# Altium footprint library Transistors_rus.PCBLIB: 35 footprints (part 2 of 3)
Each footprint in its own frame and in the unit in brackets; x right, y up, seen from the top. Pads: shape width x height; smd on the part's side, far side on the other; paste and mask are expansions set on the pad; w line width, h text height; cw(c..) or ccw(c..) is an arc to the next point about the centre after c.
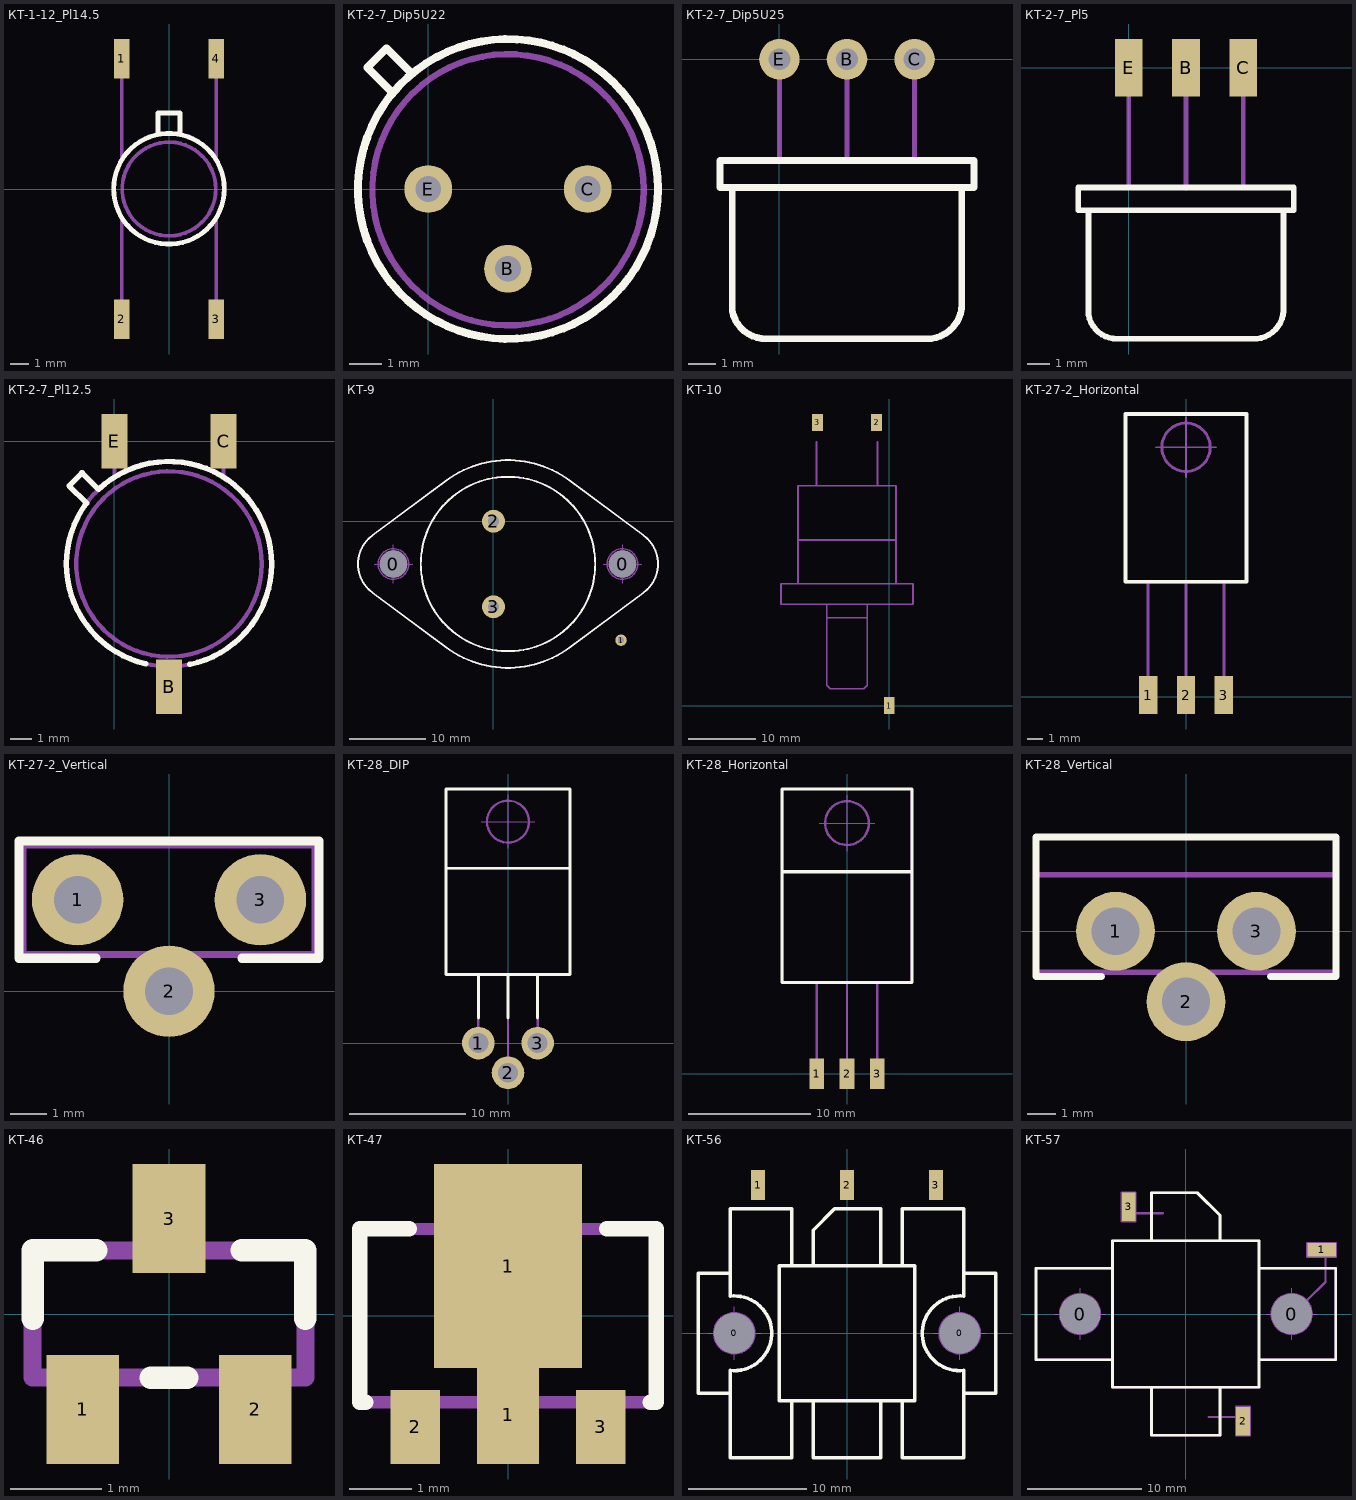
[diagram p1: the footprints below, top view; thin cyan lines are the x and y axes]

## КТ-1-12_Pl14.5 [mm]
height 7.3
pads (4):
  rect 0.8x2.1 smd: 1(-2.5,6.875) 2(-2.5,-6.875) 3(2.5,-6.875) 4(2.5,6.875)
Top Overlay:
  circle w0.25: c0,0.01 r2.925
  lines w0.25: -0.58,2.9 -0.58,4.02 0.58,4.02 0.58,2.9
Mechanical 1:
  circle w0.2: c0,0 r2.925
  circle w0.2: c0,0 r2.475
  lines w0.2: -2.5,-7.25 -2.5,-1.525 ; -2.5,1.525 -2.5,7.25 ; -0.58,2.9 -0.58,4.02 0.58,4.02 0.58,2.9 ; 2.5,-7.25 2.5,-1.525 ; 2.5,1.525 2.5,7.25
  text ".Designator" at -1.1,4.775 h1.5
  text "И" at -1.8,0.375 h1.5
  text "С" at -1.8,-1.325 h1.5
  text "З" at 1.1,-1.325 h1.5
  text "К" at 0.9,0.375 h1.5
3D body: height 8.56, standoff 0, extent -2.911,-7.25 2.911,7.25

## КТ-2-7_Dip5U22 [mm]
height 9.6
pads (3):
  round 1.5 hole 0.8: B(2.5,-2.5) C(5,0) E(0,0)
Top Overlay:
  circle w0.25: c2.5,0 r4.7
  lines w0.25: -1.11,3.01 -1.91,3.81 -1.31,4.41 -0.51,3.61
Mechanical 1:
  circle w0.2: c2.5,0 r4.7
  circle w0.2: c2.5,-0.025 r4.25
  lines w0.2: -1.12,3.02 -1.9,3.8 -1.3,4.4 -0.5,3.6 -0.52,3.6
  text ".Designator" at 0.2,2 h1.5
  text "Э" at -0.31,-0.007 h1.5
  text "К" at 4.52,-0.017 h1.5
  text "Б" at 2.1,-3.3 h1.5

## КТ-2-7_Dip5U25 [mm]
height 9.4
pads (3):
  round 1.5 hole 0.8: B(2.5,0) C(5,0) E(0,0)
Top Overlay:
  lines w0.25: -1.75,-9.3 -1.75,-4.75 ; -1.749,-9.302 ccw(c-0.515,-9.1) -0.491,-10.35 ; -0.55,-10.35 5.6,-10.35 ; 5.607,-10.351 ccw(c5.45,-9.055) 6.745,-9.219 ; 6.75,-9.19 6.75,-4.75 ; -2.2,-4.75 7.2,-4.75 7.2,-3.75 -2.2,-3.75 -2.2,-4.75
Mechanical 1:
  lines w0.2: -1.752,-9.332 ccw(c-0.525,-9.1) -0.501,-10.348 ; -1.75,-9.38 -1.75,-4.75 ; -0.5,-10.35 5.5,-10.35 ; 0,-3.775 0,0 ; 2.5,-3.775 2.5,0 ; 5,-3.775 5,0 ; 5.492,-10.349 ccw(c5.46,-9.055) 6.746,-8.908 ; 6.75,-8.87 6.75,-4.75 ; -2.2,-4.75 7.2,-4.75 7.2,-3.75 -2.2,-3.75 -2.2,-4.75
  text ".Designator" at 0.2,-8.6 h1.5
  text "Э" at -0.51,-6.787 h1.5
  text "Б" at 2.232,-6.767 h1.5
  text "К" at 4.54,-6.837 h1.5

## КТ-2-7_Pl5 [mm]
height 9.4
pads (3):
  rect 1.2x2.5 smd: B(2.5,0) C(5,0) E(0,0)
Top Overlay:
  lines w0.25: -1.75,-10.775 -1.75,-6.225 ; -1.749,-10.777 ccw(c-0.515,-10.575) -0.491,-11.825 ; -0.55,-11.825 5.6,-11.825 ; 5.607,-11.826 ccw(c5.45,-10.53) 6.753,-10.601 ; 6.75,-10.665 6.75,-6.225 ; -2.2,-6.225 7.2,-6.225 7.2,-5.225 -2.2,-5.225 -2.2,-6.225
Mechanical 1:
  lines w0.2: -1.752,-10.807 ccw(c-0.525,-10.575) -0.501,-11.823 ; -1.75,-10.855 -1.75,-6.225 ; -0.45,-11.825 5.55,-11.825 ; 0,-5.225 0,0.54 ; 2.5,-5.25 2.5,0.54 ; 5,-5.225 5,0.54 ; 5.492,-11.824 ccw(c5.46,-10.53) 6.755,-10.55 ; 6.75,-10.55 6.75,-6.225 ; -2.2,-6.225 7.2,-6.225 7.2,-5.225 -2.2,-5.225 -2.2,-6.225
  text ".Designator" at 0.4,-9.6 h1.5
  text "Э" at -0.41,-7.762 h1.5
  text "К" at 4.64,-7.812 h1.5
  text "Б" at 2.332,-7.742 h1.5

## КТ-2-7_Pl12.5 [mm]
height 10.4
pads (3):
  rect 1.2x2.5 smd: B(2.5,-11.25) C(5,0) E(0,0)
Top Overlay:
  lines w0.25: -2.08,-2.04 -1.28,-2.84 ; -2.07,-2.03 -1.49,-1.45 ; -1.48,-1.45 -0.73,-2.2 ; -1.288,-2.843 ccw(c2.5,-5.625) 1.427,-10.201 ; -0.717,-2.199 cw(c2.5,-5.625) 3.453,-10.227
Mechanical 1:
  circle w0.2: c2.5,-5.625 r4.25
  circle w0.2: c2.5,-5.625 r4.7
  lines w0.2: -1.29,-2.8 -2.06,-2.03 -1.47,-1.44 -0.71,-2.2 ; 0,-1.625 0,0.625 ; 2.5,-11.875 2.5,-10.325 ; 5,-1.625 5,0.625
  text ".Designator" at 0.1,-6.5 h1.5
  text "Б" at 2.172,-9.332 h1.5
  text "К" at 4.44,-4.382 h1.5
  text "Э" at -0.36,-4.382 h1.5

## КТ-9 [mm]
height 10.3
pads (5):
  round 3.5 hole 3.5 unplated: 0(-13.1,-5.6) 0(16.9,-5.6)
  round 1.5 hole 0.8 unplated: 1(16.71,-15.58)
  round 3 hole 1.5: 2(0,0) 3(0,-11.2)
Top Overlay:
  circle w0.25: c1.9,-5.6 r11.425
  lines w0.25: -15.85,-9.35 cw(c-13.1,-5.6) -15.85,-1.85 -6.1,5.4 cw(c1.9,-5.6) 9.9,5.4 19.65,-1.85 cw(c16.9,-5.6) 19.65,-9.35 9.9,-16.6 cw(c1.9,-5.6) -6.1,-16.6 -15.85,-9.35
Mechanical 1:
  circle w0.2: c1.9,-5.6 r11.425
  circle w0.2: c16.9,-5.6 r1.75
  circle w0.2: c16.9,-5.6 r2
  circle w0.2: c-13.1,-5.6 r2
  circle w0.2: c-13.1,-5.6 r1.75
  lines w0.1: -15.6,-5.6 -10.6,-5.6 ; -13.1,-8.1 -13.1,-3.1 ; 14.4,-5.6 19.4,-5.6 ; 16.9,-8.1 16.9,-3.1
  lines w0.2: -15.85,-9.35 cw(c-13.1,-5.6) -15.85,-1.85 -6.1,5.4 cw(c1.9,-5.6) 9.9,5.4 19.65,-1.85 cw(c16.9,-5.6) 19.65,-9.35 9.9,-16.6 cw(c1.9,-5.6) -6.1,-16.6 -15.85,-9.35
  text "Б" at 1.972,-1.082 h1.5
  text "Э" at 1.99,-12.582 h1.5
  text "К" at 13.965,-17.857 h1.5
  text ".Designator" at -0.28,-6.25 h1.5
Mechanical 2:
  circle w0.2: c16.9,-5.6 r1.75
  circle w0.2: c16.9,-5.6 r2
  circle w0.2: c-13.1,-5.6 r2
  circle w0.2: c-13.1,-5.6 r1.75
  lines w0.1: -15.6,-5.6 -10.6,-5.6 ; -13.1,-8.1 -13.1,-3.1 ; 14.4,-5.6 19.4,-5.6 ; 16.9,-8.1 16.9,-3.1

## КТ-10 [mm]
height 19.6
pads (3):
  rect 1.6x2.5 smd: 1(0,0) 2(-1.875,41.875) 3(-10.625,41.875)
Mechanical 1:
  lines w0.25: -13.5,18 -13.5,32.5 1,32.5 1,18 ; -13.5,24.5 1,24.5 ; -10.75,32.5 -10.75,39 ; -9.25,13 -3.25,13 ; -9.25,15 -9.25,3 -8.75,2.5 -3.75,2.5 -3.25,3 -3.25,15 ; -1.75,32.5 -1.75,39 ; -16,15 -16,18 3.5,18 3.5,15 -16,15
  text "Э" at -10.11,36.743 h1.5
  text "Б" at -0.978,36.743 h1.5
  text "К" at -2.11,2.493 h1.5
  text ".Designator" at -9.58,20.55 h1.5

## КТ-27-2_Horizontal [mm]
height 4.8
pads (3):
  rect 1.2x2.5 smd: 1(-2.5,0.12) 2(0,0.12) 3(2.5,0.12)
Top Overlay:
  lines w0.25: -4,7.62 4,7.62 4,18.72 -4,18.72 -4,7.62
Mechanical 1:
  circle w0.2: c0,16.52 r1.6
  lines w0.1: -2,16.52 2,16.52 ; 0,14.52 0,18.52
  lines w0.2: -2.5,-0.38 -2.5,7.62 ; 0,-0.38 0,7.62 ; 2.5,-0.38 2.5,7.62 ; -4,7.62 4,7.62 4,18.72 -4,18.72 -4,7.62
  text ".Designator" at -1.78,12.25 h1.5
  text "Э" at -2.96,8.313 h1.5
  text "Б" at 2.172,8.313 h1.5
  text "К" at -0.46,8.313 h1.5

## КТ-27-2_Vertical [mm]
height 17.7
pads (3):
  round 2.5 hole 1.3: 1(-2.5,2.5) 2(0,0) 3(2.5,2.5)
Top Overlay:
  lines w0.25: -2,0.9 -4.1,0.9 -4.1,4.1 4.1,4.1 4.1,0.9 2,0.9
Mechanical 1:
  lines w0.2: 0,0 0,1 ; -4,1 -4,4 4,4 4,1 -4,1
  text ".Designator" at -1.68,4.95 h1.5
  text "Б" at 2.4,2.1 h1.5
  text "К" at -0.36,1.543 h1.5
  text "Э" at -3.36,2.043 h1.5

## КТ-28_DIP [mm]
height 4.8
pads (3):
  round 2.8 hole 1.7: 1(-2.54,0) 2(0,-2.54) 3(2.54,0)
Top Overlay:
  lines w0.25: -5.325,15 5.325,15 ; -2.54,2.159 -2.54,5.842 ; 0,2.159 0,5.842 ; 2.54,2.159 2.54,5.842 ; -5.325,5.9 5.325,5.9 5.325,21.8 -5.325,21.8 -5.325,5.9
Mechanical 1:
  circle w0.2: c0,19 r1.8
  lines w0.1: -2.3,19 2.3,19 ; 0,16.7 0,21.3
  lines w0.2: -5.325,15 5.325,15 ; -2.54,0 -2.54,5.842 ; 0,-2.54 0,5.842 ; 2.54,0 2.54,5.842 ; -5.325,5.9 5.325,5.9 5.325,21.8 -5.325,21.8 -5.325,5.9
  text ".Designator" at -1.68,11.73 h1.5
  text "Э" at -3.635,6.648 h1.5
  text "Б" at 2.847,6.648 h1.5
  text "К" at -0.46,6.648 h1.5
  text ".Designator" at -2.032,13.462 h1.5
3D body: height 4.8, standoff -3, extent -5.325,-3.022 5.325,21.7

## КТ-28_Horizontal [mm]
height 4.8
pads (3):
  rect 1.2x2.5 smd: 1(-2.5,0) 2(0,0) 3(2.5,0)
Top Overlay:
  lines w0.25: -5.325,16.6 5.325,16.6 ; -5.325,7.5 5.325,7.5 5.325,23.4 -5.325,23.4 -5.325,7.5
Mechanical 1:
  circle w0.2: c0,20.6 r1.8
  lines w0.1: -2.3,20.6 2.3,20.6 ; 0,18.3 0,22.9
  lines w0.2: -5.325,16.6 5.325,16.6 ; -2.5,-0.5 -2.5,7.5 ; 0,-0.5 0,7.5 ; 2.5,-0.5 2.5,7.5 ; -5.325,7.5 5.325,7.5 5.325,23.4 -5.325,23.4 -5.325,7.5
  text ".Designator" at -1.68,13.33 h1.5
  text "Э" at -3.635,8.248 h1.5
  text "Б" at 2.847,8.248 h1.5
  text "К" at -0.46,8.248 h1.5
3D body: height 4.8, standoff 0, extent -5.325,-0.52 5.325,23.38

## КТ-28_Vertical [mm]
height 21
pads (3):
  round 2.8 hole 1.7: 1(-2.5,0) 2(0,-2.5) 3(2.5,0)
Top Overlay:
  lines w0.25: -3,-1.6 -5.325,-1.6 -5.325,3.35 5.325,3.35 5.325,-1.6 3,-1.6
Mechanical 1:
  lines w0.2: -5.325,2 5.325,2 ; 0,-2.5 0,-1.45 ; -5.325,-1.45 5.325,-1.45 5.325,3.35 -5.325,3.35 -5.325,-1.45
  text ".Designator" at -1.38,4.05 h1.5
  text "Э" at -4.27,-0.017 h1.5
  text "Б" at 3.482,-0.017 h1.5
  text "К" at -0.46,-0.682 h1.5
3D body: height 21.6, standoff -3, extent -5.325,-3.05 5.325,3.35

## КТ-46 [mm]
height 1.1
pads (3):
  rect 0.8x1.2 smd: 1(-0.95,-1.05) 2(0.95,-1.05) 3(0,1.05)
Top Overlay:
  lines w0.25: -1.5,-0.05 -1.5,0.7 -0.8,0.7 ; -0.2,-0.7 0.2,-0.7 ; 0.8,0.7 1.5,0.7 1.5,-0.05
Mechanical 1:
  lines w0.2: -0.97,-1.3 -0.97,-0.7 ; 0,0.7 0,1.3 ; 0.93,-1.3 0.93,-0.7 ; -1.5,-0.7 -1.5,0.7 1.5,0.7 1.5,-0.7 -1.5,-0.7
  text "2" at 1.7,-1.5 h1.5
  text "1" at -2.1,-1.6 h1.5
  text "3" at -1.2,1 h1.5
  text ".Designator" at -1.6,-2.5 h1.5
3D body: height 1.1, standoff 0, extent -1.5,-1.25 1.5,1.25

## КТ-47 [mm]
height 1.6
pads (4):
  rect 1x1.6 smd: 1(0,-1.6)
  rect 2.4x3.3 smd: 1(0,0.8)
  rect 0.8x1.2 smd: 2(-1.5,-1.8) 3(1.5,-1.8)
Top Overlay:
  lines w0.25: -2.3,-1.4 -2.4,-1.4 -2.4,1.4 -1.6,1.4 ; 1.6,1.4 2.4,1.4 2.4,-1.4 2.3,-1.4
Top Solder:
  region: 2.4,-1.4 2.4,1.4 -2.4,1.4 -2.4,-1.4
Mechanical 1:
  lines w0.2: -1.5,-2.1 -1.5,-1.4 ; -0.9,1.4 -0.9,2.2 0.9,2.2 0.9,1.4 ; 0,-2.1 0,-1.4 ; 1.5,-2.1 1.5,-1.4 ; -2.4,-1.4 2.4,-1.4 2.4,1.4 -2.4,1.4 -2.4,-1.4
  text "Б" at -1.9,-1 h1.5
  text "К" at -0.4,-0.1 h1.5
  text "Э" at 1.2,-1 h1.5
  text ".Designator" at -1.98,-3.55 h1.5
3D body: height 1.6, standoff 0, extent -2.3,-2.2 2.3,2.05

## КТ-56 [mm]
height 4
pads (5):
  round 1 hole 3.4 unplated: 0(-9.5,0) 0(9.5,0)
  rect 1.2x2.5 smd: 1(-7.5,12.5) 2(0,12.5) 3(7.5,12.5)
Top Overlay:
  lines w0.3: -9.851,3.13 cw(c-9.5,0) -9.84,-3.132 ; -9.85,-5.05 -12.55,-5.05 -12.55,5.05 -9.85,5.05 ; -9.85,-3.15 -9.85,-10.5 -4.65,-10.5 -4.65,-5.7 ; -9.85,3.15 -9.85,10.5 -4.65,10.5 -4.65,5.7 ; -2.85,-5.7 -2.85,-10.5 2.85,-10.5 2.85,-5.7 ; -2.85,5.7 -2.85,8.7 -1.05,10.5 2.85,10.5 2.85,5.7 ; 4.65,-5.7 4.65,-10.5 9.85,-10.5 9.85,-3.15 ; 4.65,5.7 4.65,10.5 9.85,10.5 9.85,3.15 ; 9.84,3.132 ccw(c9.5,0) 9.851,-3.13 ; 9.85,-5.05 12.55,-5.05 12.55,5.05 9.85,5.05 ; -5.7,-5.7 5.7,-5.7 5.7,5.7 -5.7,5.7 -5.7,-5.7
Mechanical 1:
  circle w0.2: c-9.5,0 r1.7
  circle w0.2: c9.5,0 r1.7
  lines w0.1: -11.75,0 -7.25,0 ; -9.5,-2.25 -9.5,2.25 ; 7.25,0 11.75,0 ; 9.5,-2.25 9.5,2.25
  lines w0.2: -9.851,3.13 cw(c-9.5,0) -9.84,-3.132 ; -9.85,-5.05 -12.55,-5.05 -12.55,5.05 -9.85,5.05 ; -9.85,-3.15 -9.85,-10.5 -4.65,-10.5 -4.65,-5.7 ; -9.85,3.15 -9.85,10.5 -4.65,10.5 -4.65,5.7 ; -2.85,-5.7 -2.85,-10.5 2.85,-10.5 2.85,-5.7 ; -2.85,5.7 -2.85,8.7 -1.05,10.5 2.85,10.5 2.85,5.7 ; 4.65,-5.7 4.65,-10.5 9.85,-10.5 9.85,-3.15 ; 4.65,5.7 4.65,10.5 9.85,10.5 9.85,3.15 ; 9.84,3.132 ccw(c9.5,0) 9.851,-3.13 ; 9.85,-5.05 12.55,-5.05 12.55,5.05 9.85,5.05 ; -5.7,-5.7 -5.7,5.7 5.7,5.7 5.7,-5.7 -5.7,-5.7
  text ".Designator" at -1.08,1.45 h1.5
  text "И" at -8.11,7.283 h2.12
  text "С" at -0.86,7.283 h2.12
  text "З" at 6.772,7.283 h2.12
Mechanical 2:
  circle w0.2: c-9.5,0 r1.7
  circle w0.2: c9.5,0 r1.7
  lines w0.1: -11.75,0 -7.25,0 ; -9.5,-2.25 -9.5,2.25 ; 7.25,0 11.75,0 ; 9.5,-2.25 9.5,2.25
3D body: height 8.5, standoff 0, extent -12.55,-10.5 12.55,10.5

## КТ-57 [mm]
height 4.8
pads (5):
  round 3.5 hole 3.5 unplated: 0(-9.25,0) 0(9.25,0)
  rect 2.5x1.2 smd: 1(11.875,5.625)
  rect 1.2x2.5 smd: 2(5,-9.375) 3(-5,9.375)
Top Overlay:
  lines w0.25: -6.4,-4 -13.1,-4 -13.1,4 -6.4,4 ; -3,-6.4 -3,-10.6 3,-10.6 3,-6.4 ; -3,6.4 -3,10.6 1,10.6 3,8.6 3,6.4 ; 6.4,-4 13.1,-4 13.1,4 6.4,4 ; -6.4,-6.4 -6.4,6.4 6.4,6.4 6.4,-6.4 -6.4,-6.4
Mechanical 1:
  circle w0.2: c-9.25,0 r1.75
  circle w0.2: c9.25,0 r1.75
  lines w0.1: -11.5,0 -7,0 ; -9.25,-2.25 -9.25,2.25 ; 7,0 11.5,0 ; 9.25,-2.25 9.25,2.25
  lines w0.2: -6.4,-4 -13.1,-4 -13.1,4 -6.4,4 ; -4.9,8.8 -2,8.8 ; -3,-6.4 -3,-10.6 3,-10.6 3,-6.4 ; -3,6.4 -3,10.6 1,10.6 3,8.6 3,6.4 ; 2,-9 5,-9 ; 6.4,-4 13.1,-4 13.1,4 6.4,4 ; 10.6,1.2 12.2,2.8 12.2,5.6 ; -6.4,-6.4 6.4,-6.4 6.4,6.4 -6.4,6.4 -6.4,-6.4 ; -5.6,8.1 -5.6,10.6 -4.4,10.6 -4.4,8.1 -5.6,8.1 ; 4.4,-10.6 4.4,-8.1 5.6,-8.1 5.6,-10.6 4.4,-10.6 ; 10.6,5 13.1,5 13.1,6.2 10.6,6.2 10.6,5
  text ".Designator" at -1.98,-3.15 h1.5
Mechanical 2:
  circle w0.2: c-9.25,0 r1.75
  circle w0.2: c9.25,0 r1.75
  lines w0.1: -11.5,0 -7,0 ; -9.25,-2.25 -9.25,2.25 ; 7,0 11.5,0 ; 9.25,-2.25 9.25,2.25
3D body: height 4.8, standoff 0, extent -13,-10.6 13,10.6